# EAGLE library part NRF24AP2 (library Nordic)
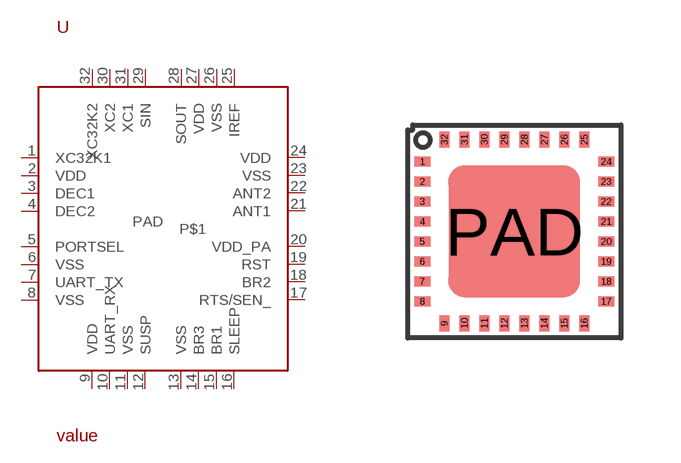
[diagram p1: symbol with the pads of QFN32; footprint QFN32]

Designator prefix -

## NRF24AP2  [QFN32]
1  XC32K1
2  VDD
3  DEC1
4  DEC2
5  PORTSEL
6  VSS
7  UART_TX
8  VSS
9  VDD
10  UART_RX
11  VSS
12  SUSP
13  VSS
14  BR3
15  BR1
16  SLEEP
17  RTS/SEN_
18  BR2
19  RST
20  VDD_PA
21  ANT1
22  ANT2
23  VSS
24  VDD
25  IREF
26  VSS
27  VDD
28  SOUT
29  SIN
30  XC2
31  XC1
32  XC32K2
PAD  P$1

## Footprint QFN32 (pad centres in mm)
smd 0.4 x 0.25: 1 -2.3,1.75; 2 -2.3,1.25; 3 -2.3,0.75; 4 -2.3,0.25; 5 -2.3,-0.25; 6 -2.3,-0.75; 7 -2.3,-1.25; 8 -2.3,-1.75; 17 2.3,-1.75; 18 2.3,-1.25; 19 2.3,-0.75; 20 2.3,-0.25; 21 2.3,0.25; 22 2.3,0.75; 23 2.3,1.25; 24 2.3,1.75
smd 0.25 x 0.4: 9 -1.75,-2.3; 10 -1.25,-2.3; 11 -0.75,-2.3; 12 -0.25,-2.3; 13 0.25,-2.3; 14 0.75,-2.3; 15 1.25,-2.3; 16 1.75,-2.3; 25 1.75,2.3; 26 1.25,2.3; 27 0.75,2.3; 28 0.25,2.3; 29 -0.25,2.3; 30 -0.75,2.3; 31 -1.25,2.3; 32 -1.75,2.3
smd 3.3 x 3.3: PAD 0,0